# Altium schematic symbol library 3D_MIG_Controller.SCHLIB: 528 symbols (part 3 of 6)
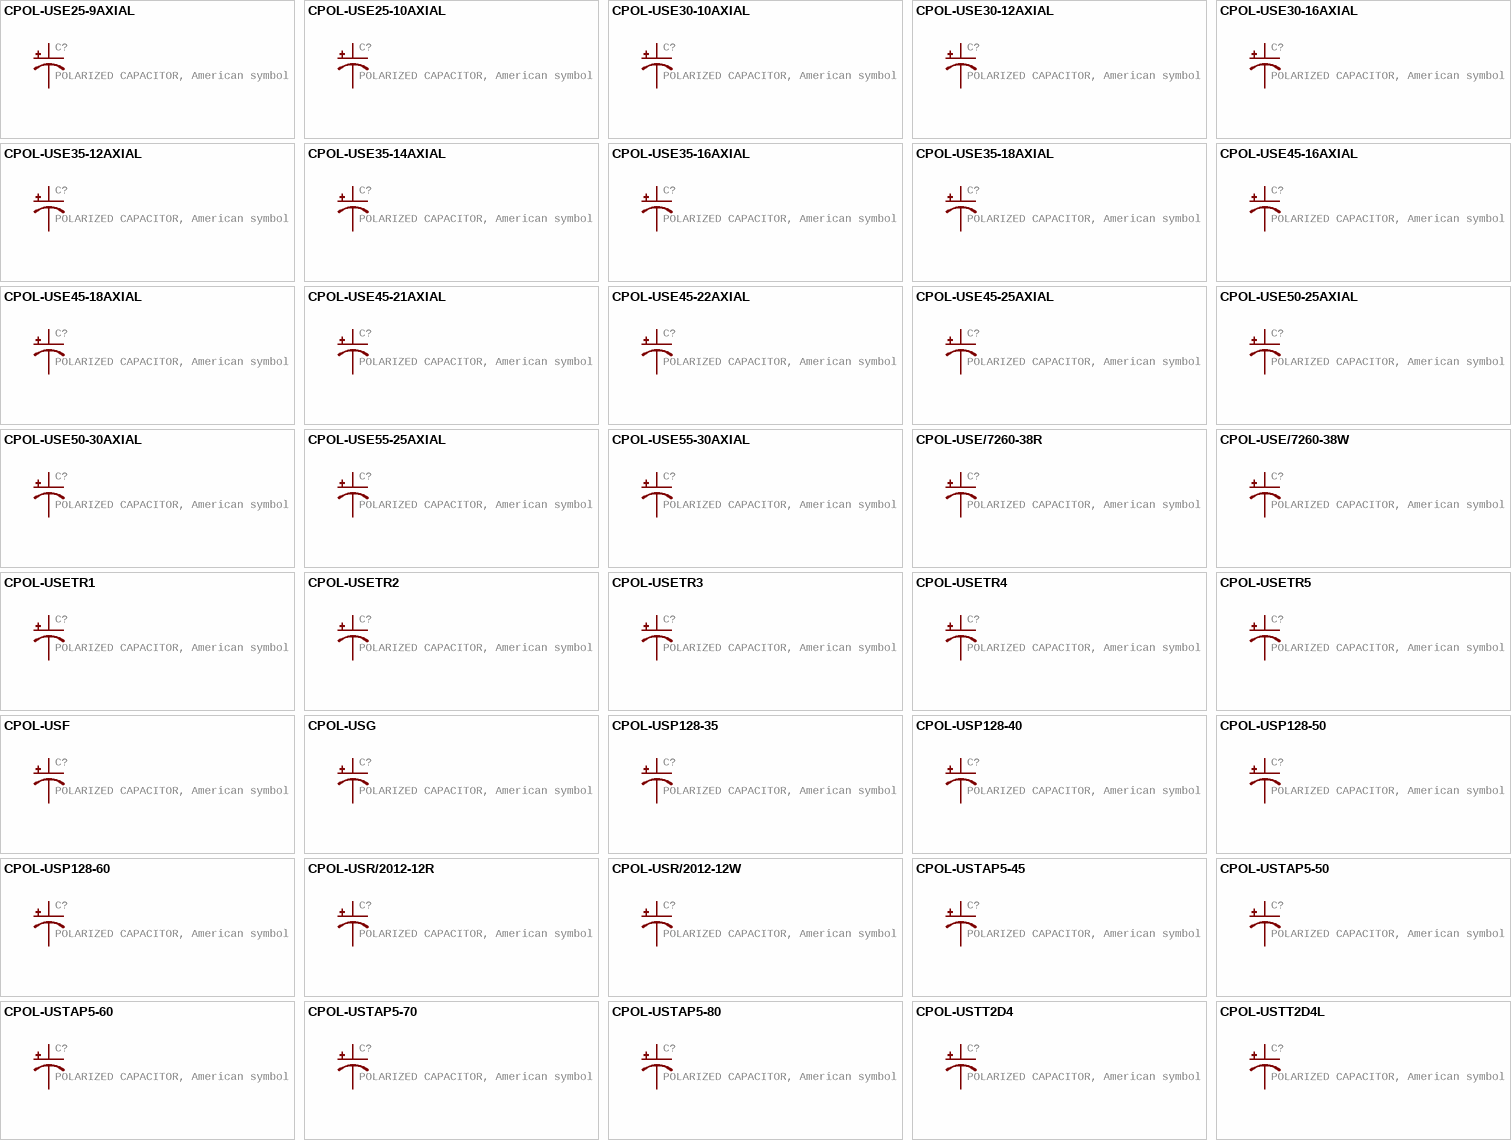
[diagram p34: symbols CPOL-USE25-9AXIAL to CPOL-USTT2D4L]

## CPOL-USE45-21AXIAL
designator C?, comment POLARIZED CAPACITOR, American symbol
GateName_1: G$1; SymbolName_1: CAP_POLARIZED; DeviceName: E45-21AXIAL; DeviceSetName: CPOL-US; LibraryName: 3D_MIG_Controller; Package: E45-21
footprint E45-21
pins: +, -

## CPOL-USE45-22AXIAL
designator C?, comment POLARIZED CAPACITOR, American symbol
GateName_1: G$1; SymbolName_1: CAP_POLARIZED; DeviceName: E45-22AXIAL; DeviceSetName: CPOL-US; LibraryName: 3D_MIG_Controller; Package: E45-22
footprint E45-22
pins: +, -

## CPOL-USE45-25AXIAL
designator C?, comment POLARIZED CAPACITOR, American symbol
GateName_1: G$1; SymbolName_1: CAP_POLARIZED; DeviceName: E45-25AXIAL; DeviceSetName: CPOL-US; LibraryName: 3D_MIG_Controller; Package: E45-25
footprint E45-25
pins: +, -

## CPOL-USE50-25AXIAL
designator C?, comment POLARIZED CAPACITOR, American symbol
GateName_1: G$1; SymbolName_1: CAP_POLARIZED; DeviceName: E50-25AXIAL; DeviceSetName: CPOL-US; LibraryName: 3D_MIG_Controller; Package: E50-25
footprint E50-25
pins: +, -

## CPOL-USE50-30AXIAL
designator C?, comment POLARIZED CAPACITOR, American symbol
GateName_1: G$1; SymbolName_1: CAP_POLARIZED; DeviceName: E50-30AXIAL; DeviceSetName: CPOL-US; LibraryName: 3D_MIG_Controller; Package: E50-30
footprint E50-30
pins: +, -

## CPOL-USE55-25AXIAL
designator C?, comment POLARIZED CAPACITOR, American symbol
GateName_1: G$1; SymbolName_1: CAP_POLARIZED; DeviceName: E55-25AXIAL; DeviceSetName: CPOL-US; LibraryName: 3D_MIG_Controller; Package: E55-25
footprint E55-25
pins: +, -

## CPOL-USE55-30AXIAL
designator C?, comment POLARIZED CAPACITOR, American symbol
GateName_1: G$1; SymbolName_1: CAP_POLARIZED; DeviceName: E55-30AXIAL; DeviceSetName: CPOL-US; LibraryName: 3D_MIG_Controller; Package: E55-30
footprint E55-30
pins: +, -

## CPOL-USE/7260-38R
designator C?, comment POLARIZED CAPACITOR, American symbol
GateName_1: G$1; SymbolName_1: CAP_POLARIZED; DeviceName: E/7260-38R; DeviceSetName: CPOL-US; LibraryName: 3D_MIG_Controller; Package: E/7260-38R
footprint E/7260-38R
pins: +, -

## CPOL-USE/7260-38W
designator C?, comment POLARIZED CAPACITOR, American symbol
GateName_1: G$1; SymbolName_1: CAP_POLARIZED; DeviceName: E/7260-38W; DeviceSetName: CPOL-US; LibraryName: 3D_MIG_Controller; Package: E/7260-38W
footprint E/7260-38W
pins: +, -

## CPOL-USETR1
designator C?, comment POLARIZED CAPACITOR, American symbol
GateName_1: G$1; SymbolName_1: CAP_POLARIZED; DeviceName: ETR1; DeviceSetName: CPOL-US; LibraryName: 3D_MIG_Controller; Package: ETR1
footprint ETR1
pins: +, -

## CPOL-USETR2
designator C?, comment POLARIZED CAPACITOR, American symbol
GateName_1: G$1; SymbolName_1: CAP_POLARIZED; DeviceName: ETR2; DeviceSetName: CPOL-US; LibraryName: 3D_MIG_Controller; Package: ETR2
footprint ETR2
pins: +, -

## CPOL-USETR3
designator C?, comment POLARIZED CAPACITOR, American symbol
GateName_1: G$1; SymbolName_1: CAP_POLARIZED; DeviceName: ETR3; DeviceSetName: CPOL-US; LibraryName: 3D_MIG_Controller; Package: ETR3
footprint ETR3
pins: +, -

## CPOL-USETR4
designator C?, comment POLARIZED CAPACITOR, American symbol
GateName_1: G$1; SymbolName_1: CAP_POLARIZED; DeviceName: ETR4; DeviceSetName: CPOL-US; LibraryName: 3D_MIG_Controller; Package: ETR4
footprint ETR4
pins: +, -

## CPOL-USETR5
designator C?, comment POLARIZED CAPACITOR, American symbol
GateName_1: G$1; SymbolName_1: CAP_POLARIZED; DeviceName: ETR5; DeviceSetName: CPOL-US; LibraryName: 3D_MIG_Controller; Package: ETR5
footprint ETR5
pins: +, -

## CPOL-USF
designator C?, comment POLARIZED CAPACITOR, American symbol
GateName_1: G$1; SymbolName_1: CAP_POLARIZED; DeviceName: F; DeviceSetName: CPOL-US; LibraryName: 3D_MIG_Controller; Package: PANASONIC_F
footprint PANASONIC_F
pins: +, -

## CPOL-USG
designator C?, comment POLARIZED CAPACITOR, American symbol
GateName_1: G$1; SymbolName_1: CAP_POLARIZED; DeviceName: G; DeviceSetName: CPOL-US; LibraryName: 3D_MIG_Controller; Package: PANASONIC_G
footprint PANASONIC_G
pins: +, -

## CPOL-USP128-35
designator C?, comment POLARIZED CAPACITOR, American symbol
GateName_1: G$1; SymbolName_1: CAP_POLARIZED; DeviceName: P128-35; DeviceSetName: CPOL-US; LibraryName: 3D_MIG_Controller; Package: P128-35
footprint P128-35
pins: +, -

## CPOL-USP128-40
designator C?, comment POLARIZED CAPACITOR, American symbol
GateName_1: G$1; SymbolName_1: CAP_POLARIZED; DeviceName: P128-40; DeviceSetName: CPOL-US; LibraryName: 3D_MIG_Controller; Package: P128-40
footprint P128-40
pins: +, -

## CPOL-USP128-50
designator C?, comment POLARIZED CAPACITOR, American symbol
GateName_1: G$1; SymbolName_1: CAP_POLARIZED; DeviceName: P128-50; DeviceSetName: CPOL-US; LibraryName: 3D_MIG_Controller; Package: P128-50
footprint P128-50
pins: +, -

## CPOL-USP128-60
designator C?, comment POLARIZED CAPACITOR, American symbol
GateName_1: G$1; SymbolName_1: CAP_POLARIZED; DeviceName: P128-60; DeviceSetName: CPOL-US; LibraryName: 3D_MIG_Controller; Package: P128-60
footprint P128-60
pins: +, -

## CPOL-USR/2012-12R
designator C?, comment POLARIZED CAPACITOR, American symbol
GateName_1: G$1; SymbolName_1: CAP_POLARIZED; DeviceName: R/2012-12R; DeviceSetName: CPOL-US; LibraryName: 3D_MIG_Controller; Package: R/2012-12R
footprint R/2012-12R
pins: +, -

## CPOL-USR/2012-12W
designator C?, comment POLARIZED CAPACITOR, American symbol
GateName_1: G$1; SymbolName_1: CAP_POLARIZED; DeviceName: R/2012-12W; DeviceSetName: CPOL-US; LibraryName: 3D_MIG_Controller; Package: R/2012-12W
footprint R/2012-12W
pins: +, -

## CPOL-USTAP5-45
designator C?, comment POLARIZED CAPACITOR, American symbol
GateName_1: G$1; SymbolName_1: CAP_POLARIZED; DeviceName: TAP5-45; DeviceSetName: CPOL-US; LibraryName: 3D_MIG_Controller; Package: TAP5-45
footprint TAP5-45
pins: +, -

## CPOL-USTAP5-50
designator C?, comment POLARIZED CAPACITOR, American symbol
GateName_1: G$1; SymbolName_1: CAP_POLARIZED; DeviceName: TAP5-50; DeviceSetName: CPOL-US; LibraryName: 3D_MIG_Controller; Package: TAP5-50
footprint TAP5-50
pins: +, -

## CPOL-USTAP5-60
designator C?, comment POLARIZED CAPACITOR, American symbol
GateName_1: G$1; SymbolName_1: CAP_POLARIZED; DeviceName: TAP5-60; DeviceSetName: CPOL-US; LibraryName: 3D_MIG_Controller; Package: TAP5-60
footprint TAP5-60
pins: +, -

## CPOL-USTAP5-70
designator C?, comment POLARIZED CAPACITOR, American symbol
GateName_1: G$1; SymbolName_1: CAP_POLARIZED; DeviceName: TAP5-70; DeviceSetName: CPOL-US; LibraryName: 3D_MIG_Controller; Package: TAP5-70
footprint TAP5-70
pins: +, -

## CPOL-USTAP5-80
designator C?, comment POLARIZED CAPACITOR, American symbol
GateName_1: G$1; SymbolName_1: CAP_POLARIZED; DeviceName: TAP5-80; DeviceSetName: CPOL-US; LibraryName: 3D_MIG_Controller; Package: TAP5-80
footprint TAP5-80
pins: +, -

## CPOL-USTT2D4
designator C?, comment POLARIZED CAPACITOR, American symbol
GateName_1: G$1; SymbolName_1: CAP_POLARIZED; DeviceName: TT2D4; DeviceSetName: CPOL-US; LibraryName: 3D_MIG_Controller; Package: TT2D4
footprint TT2D4
pins: +, -

## CPOL-USTT2D4L
designator C?, comment POLARIZED CAPACITOR, American symbol
GateName_1: G$1; SymbolName_1: CAP_POLARIZED; DeviceName: TT2D4L; DeviceSetName: CPOL-US; LibraryName: 3D_MIG_Controller; Package: TT2D4L
footprint TT2D4L
pins: +, -

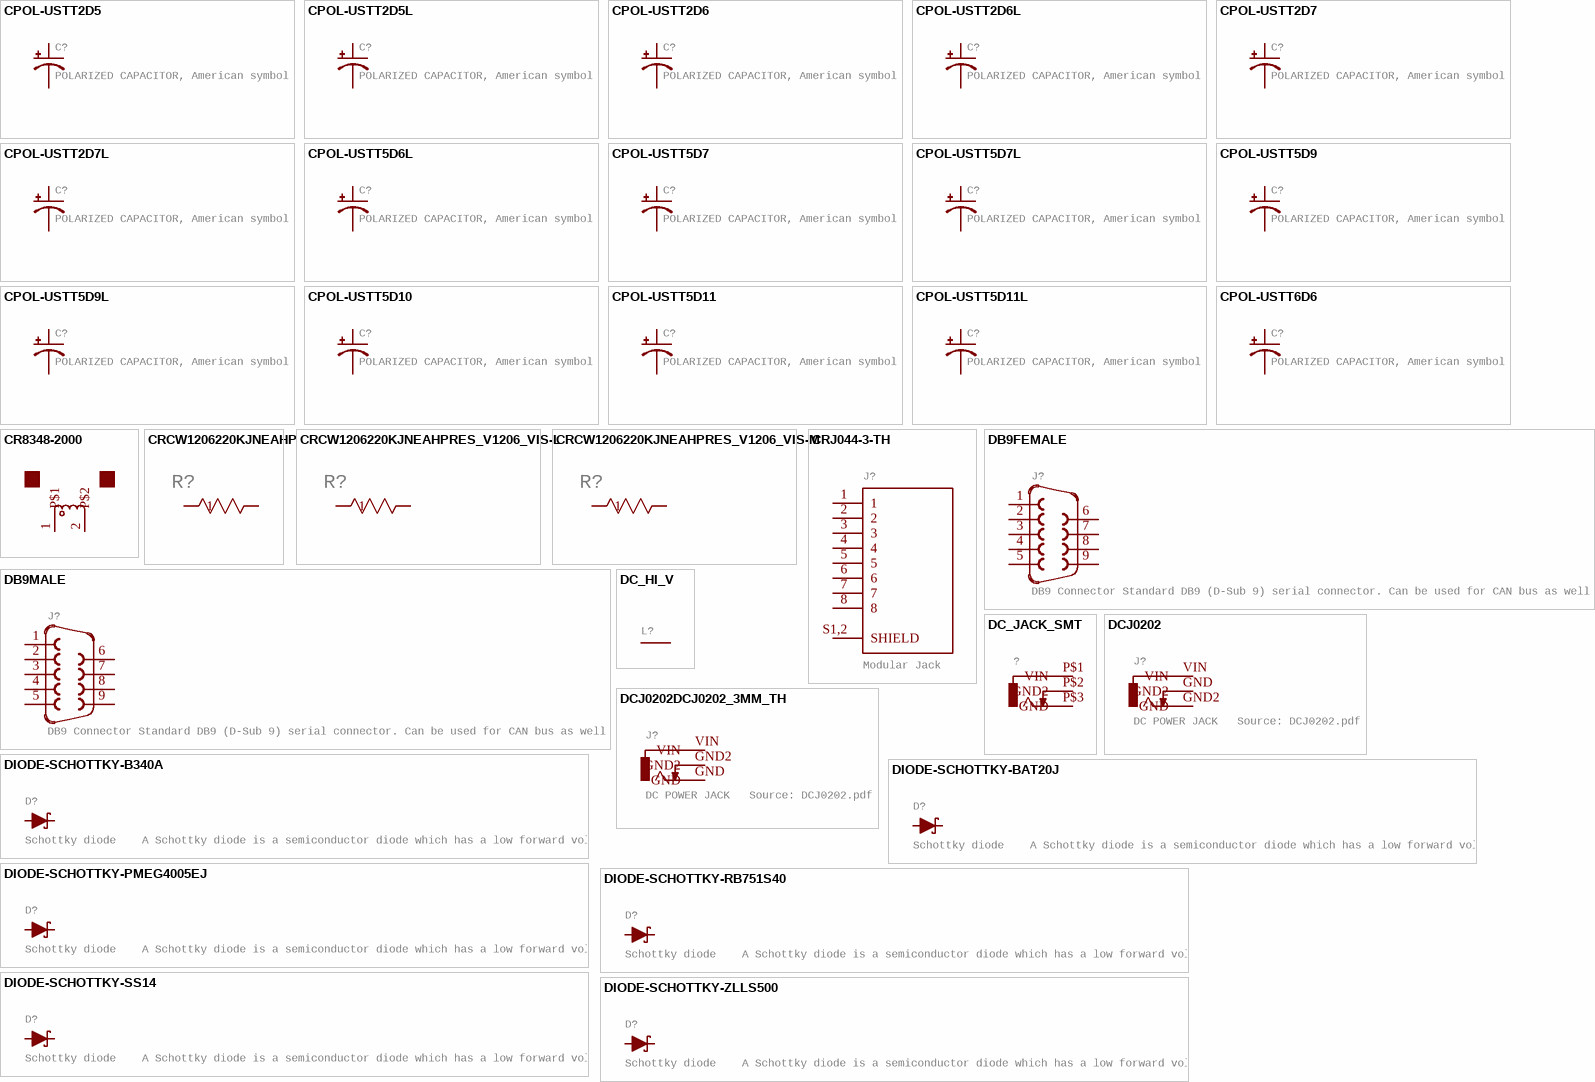
[diagram p11: symbols CPOL-USTT2D5 to DIODE-SCHOTTKY-ZLLS500]

## CPOL-USTT2D5
designator C?, comment POLARIZED CAPACITOR, American symbol
GateName_1: G$1; SymbolName_1: CAP_POLARIZED; DeviceName: TT2D5; DeviceSetName: CPOL-US; LibraryName: 3D_MIG_Controller; Package: TT2D5
footprint TT2D5
pins: +, -

## CPOL-USTT2D5L
designator C?, comment POLARIZED CAPACITOR, American symbol
GateName_1: G$1; SymbolName_1: CAP_POLARIZED; DeviceName: TT2D5L; DeviceSetName: CPOL-US; LibraryName: 3D_MIG_Controller; Package: TT2D5L
footprint TT2D5L
pins: +, -

## CPOL-USTT2D6
designator C?, comment POLARIZED CAPACITOR, American symbol
GateName_1: G$1; SymbolName_1: CAP_POLARIZED; DeviceName: TT2D6; DeviceSetName: CPOL-US; LibraryName: 3D_MIG_Controller; Package: TT2D6
footprint TT2D6
pins: +, -

## CPOL-USTT2D6L
designator C?, comment POLARIZED CAPACITOR, American symbol
GateName_1: G$1; SymbolName_1: CAP_POLARIZED; DeviceName: TT2D6L; DeviceSetName: CPOL-US; LibraryName: 3D_MIG_Controller; Package: TT2D6L
footprint TT2D6L
pins: +, -

## CPOL-USTT2D7
designator C?, comment POLARIZED CAPACITOR, American symbol
GateName_1: G$1; SymbolName_1: CAP_POLARIZED; DeviceName: TT2D7; DeviceSetName: CPOL-US; LibraryName: 3D_MIG_Controller; Package: TT2D7
footprint TT2D7
pins: +, -

## CPOL-USTT2D7L
designator C?, comment POLARIZED CAPACITOR, American symbol
GateName_1: G$1; SymbolName_1: CAP_POLARIZED; DeviceName: TT2D7L; DeviceSetName: CPOL-US; LibraryName: 3D_MIG_Controller; Package: TT2D7L
footprint TT2D7L
pins: +, -

## CPOL-USTT5D6L
designator C?, comment POLARIZED CAPACITOR, American symbol
GateName_1: G$1; SymbolName_1: CAP_POLARIZED; DeviceName: TT5D6L; DeviceSetName: CPOL-US; LibraryName: 3D_MIG_Controller; Package: TT5D6L
footprint TT5D6L
pins: +, -

## CPOL-USTT5D7
designator C?, comment POLARIZED CAPACITOR, American symbol
GateName_1: G$1; SymbolName_1: CAP_POLARIZED; DeviceName: TT5D7; DeviceSetName: CPOL-US; LibraryName: 3D_MIG_Controller; Package: TT5D7
footprint TT5D7
pins: +, -

## CPOL-USTT5D7L
designator C?, comment POLARIZED CAPACITOR, American symbol
GateName_1: G$1; SymbolName_1: CAP_POLARIZED; DeviceName: TT5D7L; DeviceSetName: CPOL-US; LibraryName: 3D_MIG_Controller; Package: TT5D7L
footprint TT5D7L
pins: +, -

## CPOL-USTT5D9
designator C?, comment POLARIZED CAPACITOR, American symbol
GateName_1: G$1; SymbolName_1: CAP_POLARIZED; DeviceName: TT5D9; DeviceSetName: CPOL-US; LibraryName: 3D_MIG_Controller; Package: TT5D9
footprint TT5D9
pins: +, -

## CPOL-USTT5D9L
designator C?, comment POLARIZED CAPACITOR, American symbol
GateName_1: G$1; SymbolName_1: CAP_POLARIZED; DeviceName: TT5D9L; DeviceSetName: CPOL-US; LibraryName: 3D_MIG_Controller; Package: TT5D9L
footprint TT5D9L
pins: +, -

## CPOL-USTT5D10
designator C?, comment POLARIZED CAPACITOR, American symbol
GateName_1: G$1; SymbolName_1: CAP_POLARIZED; DeviceName: TT5D10; DeviceSetName: CPOL-US; LibraryName: 3D_MIG_Controller; Package: TT5D10
footprint TT5D10
pins: +, -

## CPOL-USTT5D11
designator C?, comment POLARIZED CAPACITOR, American symbol
GateName_1: G$1; SymbolName_1: CAP_POLARIZED; DeviceName: TT5D11; DeviceSetName: CPOL-US; LibraryName: 3D_MIG_Controller; Package: TT5D11
footprint TT5D11
pins: +, -

## CPOL-USTT5D11L
designator C?, comment POLARIZED CAPACITOR, American symbol
GateName_1: G$1; SymbolName_1: CAP_POLARIZED; DeviceName: TT5D11L; DeviceSetName: CPOL-US; LibraryName: 3D_MIG_Controller; Package: TT5D11L
footprint TT5D11L
pins: +, -

## CPOL-USTT6D6
designator C?, comment POLARIZED CAPACITOR, American symbol
GateName_1: G$1; SymbolName_1: CAP_POLARIZED; DeviceName: TT6D6; DeviceSetName: CPOL-US; LibraryName: 3D_MIG_Controller; Package: TT5D6
footprint TT5D6
pins: +, -

## CR8348-2000
designator TR?
GateName_1: G$1; SymbolName_1: CURRENT_TRANSFORMER; DeviceSetName: CR8348-2000; LibraryName: 3D_MIG_Controller; Package: AC-1020-3PIN
footprint AC-1020-3PIN
pins: 1 P$1 (io), 2 P$2 (io)

## CRCW1206220KJNEAHP
designator R?
GateName_1: A; SymbolName_1: RES; DeviceSetName: CRCW1206220KJNEAHP; BUILT_BY: EMA_UL_Team; SOURCELIBRARY: Vishay_2015_05_22; VENDOR: Vishay; LibraryName: 3D_MIG_Controller; Package: RES_V1206_VIS; MANUFACTURER_PART_NUMBER: CRCW1206220KJNEAHP
footprint RES_V1206_VIS
pins: 1, 2

## CRCW1206220KJNEAHPRES_V1206_VIS-L
designator R?
GateName_1: A; SymbolName_1: RES; DeviceName: RES_V1206_VIS-L; DeviceSetName: CRCW1206220KJNEAHP; BUILT_BY: EMA_UL_Team; SOURCELIBRARY: Vishay_2015_05_22; VENDOR: Vishay; LibraryName: 3D_MIG_Controller; Package: RES_V1206_VIS-L; MANUFACTURER_PART_NUMBER: CRCW1206220KJNEAHP
footprint RES_V1206_VIS-L
pins: 1, 2

## CRCW1206220KJNEAHPRES_V1206_VIS-M
designator R?
GateName_1: A; SymbolName_1: RES; DeviceName: RES_V1206_VIS-M; DeviceSetName: CRCW1206220KJNEAHP; BUILT_BY: EMA_UL_Team; SOURCELIBRARY: Vishay_2015_05_22; VENDOR: Vishay; LibraryName: 3D_MIG_Controller; Package: RES_V1206_VIS-M; MANUFACTURER_PART_NUMBER: CRCW1206220KJNEAHP
footprint RES_V1206_VIS-M
pins: 1, 2

## CRJ044-3-TH
designator J?, comment Modular Jack
GateName_1: G$1; SymbolName_1: CRJ044-3-TH; LibraryName: 3D_MIG_Controller; DeviceSetName: CRJ044-3-TH; Package: CUI_CRJ044-3-TH; MAXIMUM_PACKAGE_HEIGHT: 13.46 mm; PARTREV: 1.0; STANDARD: Manufacturer Recommendations
footprint CUI_CRJ044-3-TH
pins: 1, 2, 3, 4, 5, 6, 7, 8, S1,2 SHIELD

## DB9FEMALE
designator J?, comment DB9 Connector Standard DB9 (D-Sub 9) serial connector. Can be used for CAN bus as well as RS485 and RS232. Footprint production proven.    Here is the female version connector we sell at SparkFun:  9 Pin Female Serial Connector - PCB Mount (PRT-00429)       This connector has been used on the following SparkFun products: SparkFun RS232 Shifter - SMD (PRT-00449)   SparkFun RS232 Shifter SMD (No DB9) (PRT-08780)
GateName_1: G$1; SymbolName_1: F09G; PROD_ID: CONN-08194; DeviceName: FEMALE; LibraryName: 3D_MIG_Controller; DeviceSetName: DB9; Package: DB9
footprint DB9
pins: 1, 2, 3, 4, 5, 6, 7, 8, 9

## DB9MALE
designator J?, comment DB9 Connector Standard DB9 (D-Sub 9) serial connector. Can be used for CAN bus as well as RS485 and RS232. Footprint production proven.    Here is the female version connector we sell at SparkFun:  9 Pin Female Serial Connector - PCB Mount (PRT-00429)       This connector has been used on the following SparkFun products: SparkFun RS232 Shifter - SMD (PRT-00449)   SparkFun RS232 Shifter SMD (No DB9) (PRT-08780)
GateName_1: G$1; SymbolName_1: F09G; DeviceName: MALE; PROD_ID: CONN-09904; LibraryName: 3D_MIG_Controller; DeviceSetName: DB9; Package: DB9_MALE
footprint DB9_MALE
pins: 1, 2, 3, 4, 5, 6, 7, 8, 9

## DC_HI_V
designator L?
GateName_1: G$1; SymbolName_1: AC_240V_L1_15A; DeviceSetName: DC_HI_V; LibraryName: 3D_MIG_Controller; Package: AC_240V_L1_15A
footprint AC_240V_L1_15A
pins: P$1

## DC_JACK_SMT
designator ?
GateName_1: G$1; SymbolName_1: DC-JACK-SWITCH; DeviceSetName: DC_JACK_SMT; LibraryName: 3D_MIG_Controller; Package: DC_JACK_SMT
footprint DC_JACK_SMT
pins: P$1 VIN (power), P$2 GND2 (power), P$3 GND (power)

## DCJ0202
designator J?, comment DC POWER JACK   Source: DCJ0202.pdf
GateName_1: G$1; SymbolName_1: DC-JACK-SWITCH; LibraryName: 3D_MIG_Controller; DeviceSetName: DCJ0202; Package: DCJ0202; OC_FARNELL: unknown; OC_NEWARK: unknown
footprint DCJ0202
pins: GND GND2 (power), GND2 GND (power), VIN (power)

## DCJ0202DCJ0202_3MM_TH
designator J?, comment DC POWER JACK   Source: DCJ0202.pdf
GateName_1: G$1; SymbolName_1: DC-JACK-SWITCH; DeviceName: DCJ0202_3MM_TH; LibraryName: 3D_MIG_Controller; DeviceSetName: DCJ0202; Package: DCJ0202_3MM_TH
footprint DCJ0202_3MM_TH
pins: GND (power), GND2 (power), VIN (power)

## DIODE-SCHOTTKY-B340A
designator D?, comment Schottky diode    A Schottky diode is a semiconductor diode which has a low forward voltage drop and a very fast switching action.
GateName_1: G$1; SymbolName_1: DIODE-SCHOTTKY; DeviceName: -B340A; PROD_ID: DIO-09886; LibraryName: 3D_MIG_Controller; DeviceSetName: DIODE-SCHOTTKY; Package: SMA-DIODE
footprint SMA-DIODE
pins: A, C

## DIODE-SCHOTTKY-BAT20J
designator D?, comment Schottky diode    A Schottky diode is a semiconductor diode which has a low forward voltage drop and a very fast switching action.
GateName_1: G$1; SymbolName_1: DIODE-SCHOTTKY; DeviceName: -BAT20J; PROD_ID: DIO-11623; LibraryName: 3D_MIG_Controller; DeviceSetName: DIODE-SCHOTTKY; Package: SOD-323
footprint SOD-323
pins: A, C

## DIODE-SCHOTTKY-PMEG4005EJ
designator D?, comment Schottky diode    A Schottky diode is a semiconductor diode which has a low forward voltage drop and a very fast switching action.
GateName_1: G$1; SymbolName_1: DIODE-SCHOTTKY; DeviceName: -PMEG4005EJ; PROD_ID: DIO-10955; LibraryName: 3D_MIG_Controller; DeviceSetName: DIODE-SCHOTTKY; Package: SOD-323
footprint SOD-323
pins: A, C

## DIODE-SCHOTTKY-RB751S40
designator D?, comment Schottky diode    A Schottky diode is a semiconductor diode which has a low forward voltage drop and a very fast switching action.
GateName_1: G$1; SymbolName_1: DIODE-SCHOTTKY; DeviceName: -RB751S40; PROD_ID: DIO-11018; LibraryName: 3D_MIG_Controller; DeviceSetName: DIODE-SCHOTTKY; Package: SOD-523
footprint SOD-523
pins: A, C

## DIODE-SCHOTTKY-SS14
designator D?, comment Schottky diode    A Schottky diode is a semiconductor diode which has a low forward voltage drop and a very fast switching action.
GateName_1: G$1; SymbolName_1: DIODE-SCHOTTKY; DeviceName: -SS14; PROD_ID: DIO-08053; LibraryName: 3D_MIG_Controller; DeviceSetName: DIODE-SCHOTTKY; Package: SMA-DIODE
footprint SMA-DIODE
pins: A, C

## DIODE-SCHOTTKY-ZLLS500
designator D?, comment Schottky diode    A Schottky diode is a semiconductor diode which has a low forward voltage drop and a very fast switching action.
GateName_1: G$1; SymbolName_1: DIODE-SCHOTTKY; DeviceName: -ZLLS500; PROD_ID: DIO-08411; LibraryName: 3D_MIG_Controller; DeviceSetName: DIODE-SCHOTTKY; Package: SOT23-3
footprint SOT23-3
pins: 1 A, 3 C

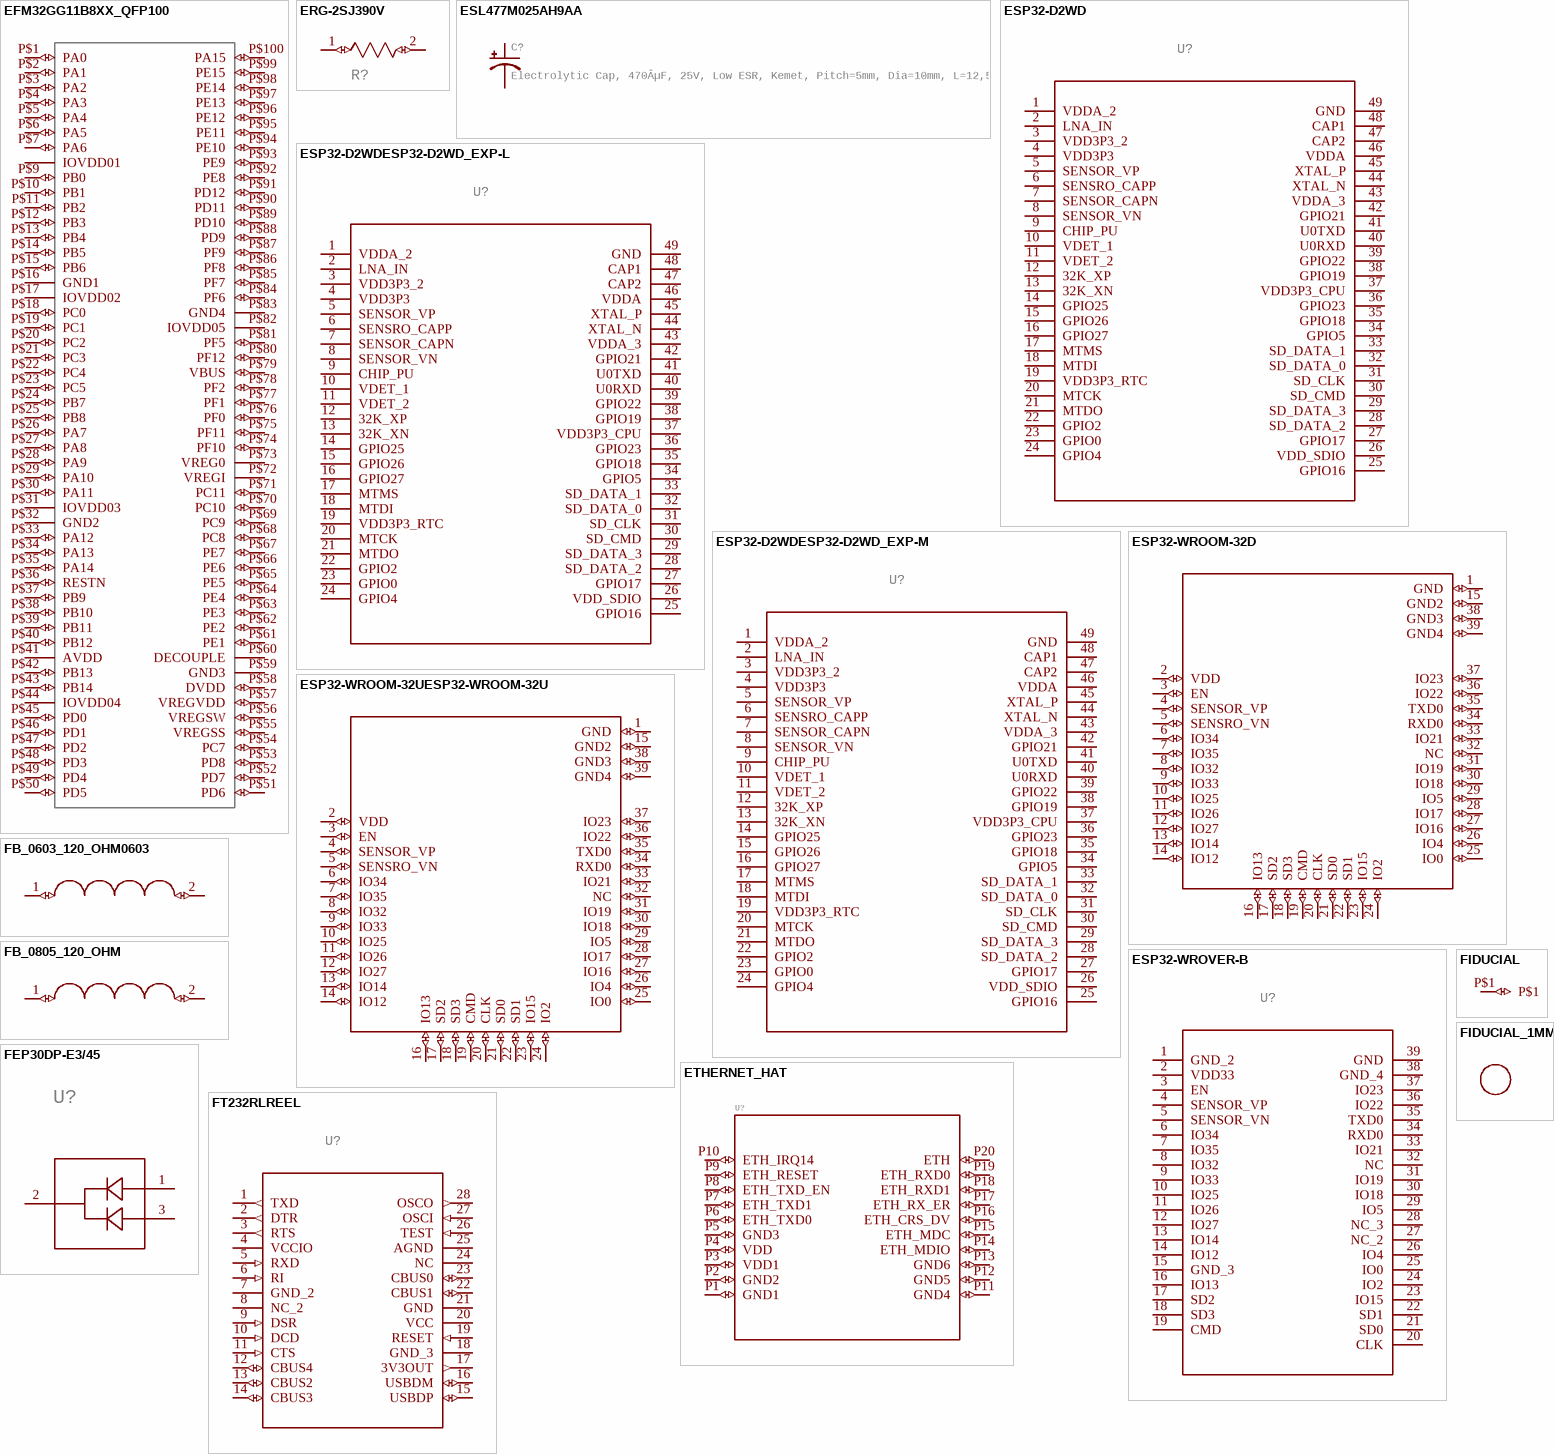
[diagram p12: symbols EFM32GG11B8XX_QFP100 to FT232RLREEL]

## EFM32GG11B8XX_QFP100
designator U?
GateName_1: G$1; SymbolName_1: EFM32_LQFP_100; DeviceSetName: EFM32GG11B8XX_QFP100; LibraryName: 3D_MIG_Controller; Package: LQFP_100_PINS_BREAKOUT
footprint LQFP_100_PINS_BREAKOUT
pins: P$1 PA0 (io), P$2 PA1 (io), P$3 PA2 (io), P$4 PA3 (io), P$5 PA4 (io), P$6 PA5 (io), P$7 PA6 (io), P$8 IOVDD01 (power), P$9 PB0 (io), P$10 PB1 (io), P$11 PB2 (io), P$12 PB3 (io), P$13 PB4 (io), P$14 PB5 (io), P$15 PB6 (io), P$16 GND1 (power), P$17 IOVDD02 (power), P$18 PC0 (io), P$19 PC1 (io), P$20 PC2 (io), P$21 PC3 (io), P$22 PC4 (io), P$23 PC5 (io), P$24 PB7 (io), P$25 PB8 (io), P$26 PA7 (io), P$27 PA8 (io), P$28 PA9 (io), P$29 PA10 (io), P$30 PA11 (io), P$31 IOVDD03 (power), P$32 GND2 (power), P$33 PA12 (io), P$34 PA13 (io), P$35 PA14 (io), P$36 RESTN (io), P$37 PB9 (io), P$38 PB10 (io), P$39 PB11 (io), P$40 PB12 (io), P$41 AVDD (power), P$42 PB13 (io), P$43 PB14 (io), P$44 IOVDD04 (power), P$45 PD0 (io), P$46 PD1 (io), P$47 PD2 (io), P$48 PD3 (io), P$49 PD4 (io), P$50 PD5 (io), P$51 PD6 (io), P$52 PD7 (io), P$53 PD8 (io), P$54 PC7 (io), P$55 VREGSS (io), P$56 VREGSW (io), P$57 VREGVDD (io), P$58 DVDD (io), P$59 GND3 (power), P$60 DECOUPLE (power), P$61 PE1 (io), P$62 PE2 (io), P$63 PE3 (io), P$64 PE4 (io), P$65 PE5 (io), P$66 PE6 (io), P$67 PE7 (io), P$68 PC8 (io), P$69 PC9 (io), P$70 PC10 (io), P$71 PC11 (io), P$72 VREGI (power), P$73 VREG0 (power), P$74 PF10 (io), P$75 PF11 (io), P$76 PF0 (io), P$77 PF1 (io), P$78 PF2 (io), P$79 VBUS (io), P$80 PF12 (io), P$81 PF5 (io), P$82 IOVDD05 (power), P$83 GND4 (power), P$84 PF6 (io), P$85 PF7 (io), P$86 PF8 (io), P$87 PF9 (io), P$88 PD9 (io), P$89 PD10 (io), P$90 PD11 (io), P$91 PD12 (io), P$92 PE8 (io), P$93 PE9 (io), P$94 PE10 (io), P$95 PE11 (io), P$96 PE12 (io), P$97 PE13 (io), P$98 PE14 (io), P$99 PE15 (io), P$100 PA15 (io)

## ERG-2SJ390V
designator R?, comment RES 39 OHM 2W 5% AXIAL, Metal Oxide, Panasonic  (value not drawn)
GateName_1: G$1; SymbolName_1: ERG-2SJ390V_0_0; DeviceSetName: ERG-2SJ390V; LibraryName: 3D_MIG_Controller; Package: ERG-2SJ390V_0
footprint ERG-2SJ390V_0
pins: 1 (io), 2 (io)

## ESL477M025AH9AA
designator C?, comment Electrolytic Cap, 470ÂµF, 25V, Low ESR, Kemet, Pitch=5mm, Dia=10mm, L=12,5mm
GateName_1: G$1; SymbolName_1: CAP_POLARIZED; DeviceSetName: ESL477M025AH9AA; LibraryName: 3D_MIG_Controller; Package: CAPACITOR-ELKO-RM5-10X16
footprint CAPACITOR-ELKO-RM5-10X16
pins: 1 +, 2 -

## ESP32-D2WD
designator U?
GateName_1: A; SymbolName_1: ESP32-D2WD; BUILT_BY: EMA_Colton; SOURCELIBRARY: Espressif_Systems_2020-02-05; VENDOR: Espressif Systems; LibraryName: 3D_MIG_Controller; DeviceSetName: ESP32-D2WD; Package: ESP32-D2WD_EXP; COPYRIGHT: Copyright (C) 2018 Accelerated Designs. All rights reserved; DATASHEET: https://datasheet.octopart.com/ESP32-D2WD-Espressif-Systems-datasheet-103126828.pdf; MANUFACTURER_PART_NUMBER: ESP32-D2WD
footprint ESP32-D2WD_EXP
pins: 1 VDDA_2, 2 LNA_IN, 3 VDD3P3_2, 4 VDD3P3, 5 SENSOR_VP, 6 SENSRO_CAPP, 7 SENSOR_CAPN, 8 SENSOR_VN, 9 CHIP_PU, 10 VDET_1, 11 VDET_2, 12 32K_XP, 13 32K_XN, 14 GPIO25, 15 GPIO26, 16 GPIO27, 17 MTMS, 18 MTDI, 19 VDD3P3_RTC, 20 MTCK, 21 MTDO, 22 GPIO2, 23 GPIO0, 24 GPIO4, 25 GPIO16, 26 VDD_SDIO, 27 GPIO17, 28 SD_DATA_2, 29 SD_DATA_3, 30 SD_CMD, 31 SD_CLK, 32 SD_DATA_0, 33 SD_DATA_1, 34 GPIO5, 35 GPIO18, 36 GPIO23, 37 VDD3P3_CPU, 38 GPIO19, 39 GPIO22, 40 U0RXD, 41 U0TXD, 42 GPIO21, 43 VDDA_3, 44 XTAL_N, 45 XTAL_P, 46 VDDA, 47 CAP2, 48 CAP1, 49 GND

## ESP32-D2WDESP32-D2WD_EXP-L
designator U?
GateName_1: A; SymbolName_1: ESP32-D2WD; DeviceName: ESP32-D2WD_EXP-L; BUILT_BY: EMA_Colton; SOURCELIBRARY: Espressif_Systems_2020-02-05; VENDOR: Espressif Systems; LibraryName: 3D_MIG_Controller; DeviceSetName: ESP32-D2WD; Package: ESP32-D2WD_EXP-L; COPYRIGHT: Copyright (C) 2018 Accelerated Designs. All rights reserved; DATASHEET: https://datasheet.octopart.com/ESP32-D2WD-Espressif-Systems-datasheet-103126828.pdf; MANUFACTURER_PART_NUMBER: ESP32-D2WD
footprint ESP32-D2WD_EXP-L
pins: 1 VDDA_2, 2 LNA_IN, 3 VDD3P3_2, 4 VDD3P3, 5 SENSOR_VP, 6 SENSRO_CAPP, 7 SENSOR_CAPN, 8 SENSOR_VN, 9 CHIP_PU, 10 VDET_1, 11 VDET_2, 12 32K_XP, 13 32K_XN, 14 GPIO25, 15 GPIO26, 16 GPIO27, 17 MTMS, 18 MTDI, 19 VDD3P3_RTC, 20 MTCK, 21 MTDO, 22 GPIO2, 23 GPIO0, 24 GPIO4, 25 GPIO16, 26 VDD_SDIO, 27 GPIO17, 28 SD_DATA_2, 29 SD_DATA_3, 30 SD_CMD, 31 SD_CLK, 32 SD_DATA_0, 33 SD_DATA_1, 34 GPIO5, 35 GPIO18, 36 GPIO23, 37 VDD3P3_CPU, 38 GPIO19, 39 GPIO22, 40 U0RXD, 41 U0TXD, 42 GPIO21, 43 VDDA_3, 44 XTAL_N, 45 XTAL_P, 46 VDDA, 47 CAP2, 48 CAP1, 49 GND

## ESP32-D2WDESP32-D2WD_EXP-M
designator U?
GateName_1: A; SymbolName_1: ESP32-D2WD; DeviceName: ESP32-D2WD_EXP-M; BUILT_BY: EMA_Colton; SOURCELIBRARY: Espressif_Systems_2020-02-05; VENDOR: Espressif Systems; LibraryName: 3D_MIG_Controller; DeviceSetName: ESP32-D2WD; Package: ESP32-D2WD_EXP-M; COPYRIGHT: Copyright (C) 2018 Accelerated Designs. All rights reserved; DATASHEET: https://datasheet.octopart.com/ESP32-D2WD-Espressif-Systems-datasheet-103126828.pdf; MANUFACTURER_PART_NUMBER: ESP32-D2WD
footprint ESP32-D2WD_EXP-M
pins: 1 VDDA_2, 2 LNA_IN, 3 VDD3P3_2, 4 VDD3P3, 5 SENSOR_VP, 6 SENSRO_CAPP, 7 SENSOR_CAPN, 8 SENSOR_VN, 9 CHIP_PU, 10 VDET_1, 11 VDET_2, 12 32K_XP, 13 32K_XN, 14 GPIO25, 15 GPIO26, 16 GPIO27, 17 MTMS, 18 MTDI, 19 VDD3P3_RTC, 20 MTCK, 21 MTDO, 22 GPIO2, 23 GPIO0, 24 GPIO4, 25 GPIO16, 26 VDD_SDIO, 27 GPIO17, 28 SD_DATA_2, 29 SD_DATA_3, 30 SD_CMD, 31 SD_CLK, 32 SD_DATA_0, 33 SD_DATA_1, 34 GPIO5, 35 GPIO18, 36 GPIO23, 37 VDD3P3_CPU, 38 GPIO19, 39 GPIO22, 40 U0RXD, 41 U0TXD, 42 GPIO21, 43 VDDA_3, 44 XTAL_N, 45 XTAL_P, 46 VDDA, 47 CAP2, 48 CAP1, 49 GND

## ESP32-WROOM-32D
designator U?
PARTNO: ESP32-WROOM-32D (4MB); GateName_1: A; SymbolName_1: ESP32-WROOM; DeviceSetName: ESP32-WROOM-32D; LibraryName: 3D_MIG_Controller; Package: ESP32-WROOM-32D
footprint ESP32-WROOM-32D
pins: 1 GND (io), 2 VDD (io), 3 EN (io), 4 SENSOR_VP (io), 5 SENSRO_VN (io), 6 IO34 (io), 7 IO35 (io), 8 IO32 (io), 9 IO33 (io), 10 IO25 (io), 11 IO26 (io), 12 IO27 (io), 13 IO14 (io), 14 IO12 (io), 15 GND2 (io), 16 IO13 (io), 17 SD2 (io), 18 SD3 (io), 19 CMD (io), 20 CLK (io), 21 SD0 (io), 22 SD1 (io), 23 IO15 (io), 24 IO2 (io), 25 IO0 (io), 26 IO4 (io), 27 IO16 (io), 28 IO17 (io), 29 IO5 (io), 30 IO18 (io), 31 IO19 (io), 32 NC (io), 33 IO21 (io), 34 RXD0 (io), 35 TXD0 (io), 36 IO22 (io), 37 IO23 (io), 38 GND3 (io), 39 GND4 (io)

## ESP32-WROOM-32UESP32-WROOM-32U
designator U?
PARTNO: ESP32-WROOM-32U (4MB); GateName_1: A; SymbolName_1: ESP32-WROOM; DeviceName: ESP32-WROOM-32U; LibraryName: 3D_MIG_Controller; DeviceSetName: ESP32-WROOM-32U; Package: ESP32-WROOM-32U
footprint ESP32-WROOM-32U
pins: 1 GND (io), 2 VDD (io), 3 EN (io), 4 SENSOR_VP (io), 5 SENSRO_VN (io), 6 IO34 (io), 7 IO35 (io), 8 IO32 (io), 9 IO33 (io), 10 IO25 (io), 11 IO26 (io), 12 IO27 (io), 13 IO14 (io), 14 IO12 (io), 15 GND2 (io), 16 IO13 (io), 17 SD2 (io), 18 SD3 (io), 19 CMD (io), 20 CLK (io), 21 SD0 (io), 22 SD1 (io), 23 IO15 (io), 24 IO2 (io), 25 IO0 (io), 26 IO4 (io), 27 IO16 (io), 28 IO17 (io), 29 IO5 (io), 30 IO18 (io), 31 IO19 (io), 32 NC (io), 33 IO21 (io), 34 RXD0 (io), 35 TXD0 (io), 36 IO22 (io), 37 IO23 (io), 38 GND3 (io), 39 GND4 (io)

## ESP32-WROVER-B
designator U?
GateName_1: A; SymbolName_1: ESP32-WROVER-B; BUILT_BY: EMA_Colton; SOURCELIBRARY: Espressif_Systems_2020-02-05; VENDOR: Espressif Systems; LibraryName: 3D_MIG_Controller; DeviceSetName: ESP32-WROVER-B; Package: ESP32-WROVER-B_EXP; COPYRIGHT: Copyright (C) 2018 Accelerated Designs. All rights reserved; DATASHEET: https://datasheet.octopart.com/ESP32-WROVER-B-%28M213DH6464PC3Q0%29-Espressif-Systems-datasheet-137461429.pdf; PARTNO: ESP32-WROVER-B
footprint ESP32-WROVER-B_EXP
pins: 1 GND_2, 2 VDD33, 3 EN, 4 SENSOR_VP, 5 SENSOR_VN, 6 IO34, 7 IO35, 8 IO32, 9 IO33, 10 IO25, 11 IO26, 12 IO27, 13 IO14, 14 IO12, 15 GND_3, 16 IO13, 17 SD2, 18 SD3, 19 CMD, 20 CLK, 21 SD0, 22 SD1, 23 IO15, 24 IO2, 25 IO0, 26 IO4, 27 NC_2, 28 NC_3, 29 IO5, 30 IO18, 31 IO19, 32 NC, 33 IO21, 34 RXD0, 35 TXD0, 36 IO22, 37 IO23, 38 GND_4, 39 GND

## ETHERNET_HAT
designator U?
GateName_1: G$1; SymbolName_1: ETHERNET_HAT; LibraryName: 3D_MIG_Controller; DeviceSetName: ETHERNET_HAT; Package: ETHERNET_HAT
footprint ETHERNET_HAT
pins: P1 GND1 (io), P2 GND2 (io), P3 VDD1 (io), P4 VDD (io), P5 GND3 (io), P6 ETH_TXD0 (io), P7 ETH_TXD1 (io), P8 ETH_TXD_EN (io), P9 ETH_RESET (io), P10 ETH_IRQ14 (io), P11 GND4 (io), P12 GND5 (io), P13 GND6 (io), P14 ETH_MDIO (io), P15 ETH_MDC (io), P16 ETH_CRS_DV (io), P17 ETH_RX_ER (io), P18 ETH_RXD1 (io), P19 ETH_RXD0 (io), P20 ETH (io)

## FB_0603_120_OHM0603
designator FB?
PARTNO: BLM18PG121SN1D; GateName_1: G$1; SymbolName_1: FERRITE_BEAD_2_PINS; DeviceName: 0603; DeviceSetName: FB_0603_120_OHM; LibraryName: 3D_MIG_Controller; Package: 0603
footprint 0603
pins: 1 P$1 (io), 2 P$2 (io)

## FB_0805_120_OHM
designator FB?
PARTNO: BLM18PG121SN1D; GateName_1: G$1; SymbolName_1: FERRITE_BEAD_2_PINS; DeviceSetName: FB_0805_120_OHM; LibraryName: 3D_MIG_Controller; Package: 0805
footprint 0805
pins: 1 P$1 (io), 2 P$2 (io)

## FEP30DP-E3/45
designator U?
GateName_1: A; SymbolName_1: DIODE_D2PAK; DeviceSetName: FEP30DP-E3/45; BUILT_BY: EMA_UL_Team; SOURCELIBRARY: Vishay_2020-02-10; VENDOR: Vishay; LibraryName: 3D_MIG_Controller; Package: TO-247AD_VIS; MANUFACTURER_PART_NUMBER: FEP30DP-E3/45
footprint TO-247AD_VIS
pins: 1, 2, 3

## FIDUCIAL
designator FID?
GateName_1: G$1; SymbolName_1: FIDUCIAL; LibraryName: 3D_MIG_Controller; DeviceSetName: FIDUCIAL; Package: FIDUCIAL
footprint FIDUCIAL
pins: P$1 (io)

## FIDUCIAL_1MM
designator ?, comment For use by pick and place machines to calibrate the vision/machine, 1mm    By microbuilder.eu  (value not drawn)
GateName_1: G$1; SymbolName_1: DOT; DeviceSetName: FIDUCIAL_1MM; LibraryName: 3D_MIG_Controller; Package: FIDUCIAL_1MM
footprint FIDUCIAL_1MM

## FT232RLREEL
designator U?
GateName_1: A; SymbolName_1: FT232RLREEL; BUILT_BY: EMA_Cory; SOURCELIBRARY: FTDI_2020-06-08; VENDOR: FTDI; LibraryName: 3D_MIG_Controller; DeviceSetName: FT232RLREEL; Package: SSOP-28_FTD; COPYRIGHT: Copyright (C) 2018 Accelerated Designs. All rights reserved; DATASHEET: https://www.ftdichip.com/Support/Documents/DataSheets/ICs/DS_FT232R.pdf; PARTNO: FT232RLREEL
footprint SSOP-28_FTD
pins: 1 TXD (out), 2 DTR (out), 3 RTS (out), 4 VCCIO (power), 5 RXD (in), 6 RI (in), 7 GND_2, 8 NC_2, 9 DSR (in), 10 DCD (in), 11 CTS (in), 12 CBUS4 (io), 13 CBUS2 (io), 14 CBUS3 (io), 15 USBDP (io), 16 USBDM (io), 17 3V3OUT (out), 18 GND_3, 19 RESET (in), 20 VCC (power), 21 GND, 22 CBUS1 (io), 23 CBUS0 (io), 24 NC, 25 AGND, 26 TEST (in), 27 OSCI (in), 28 OSCO (out)

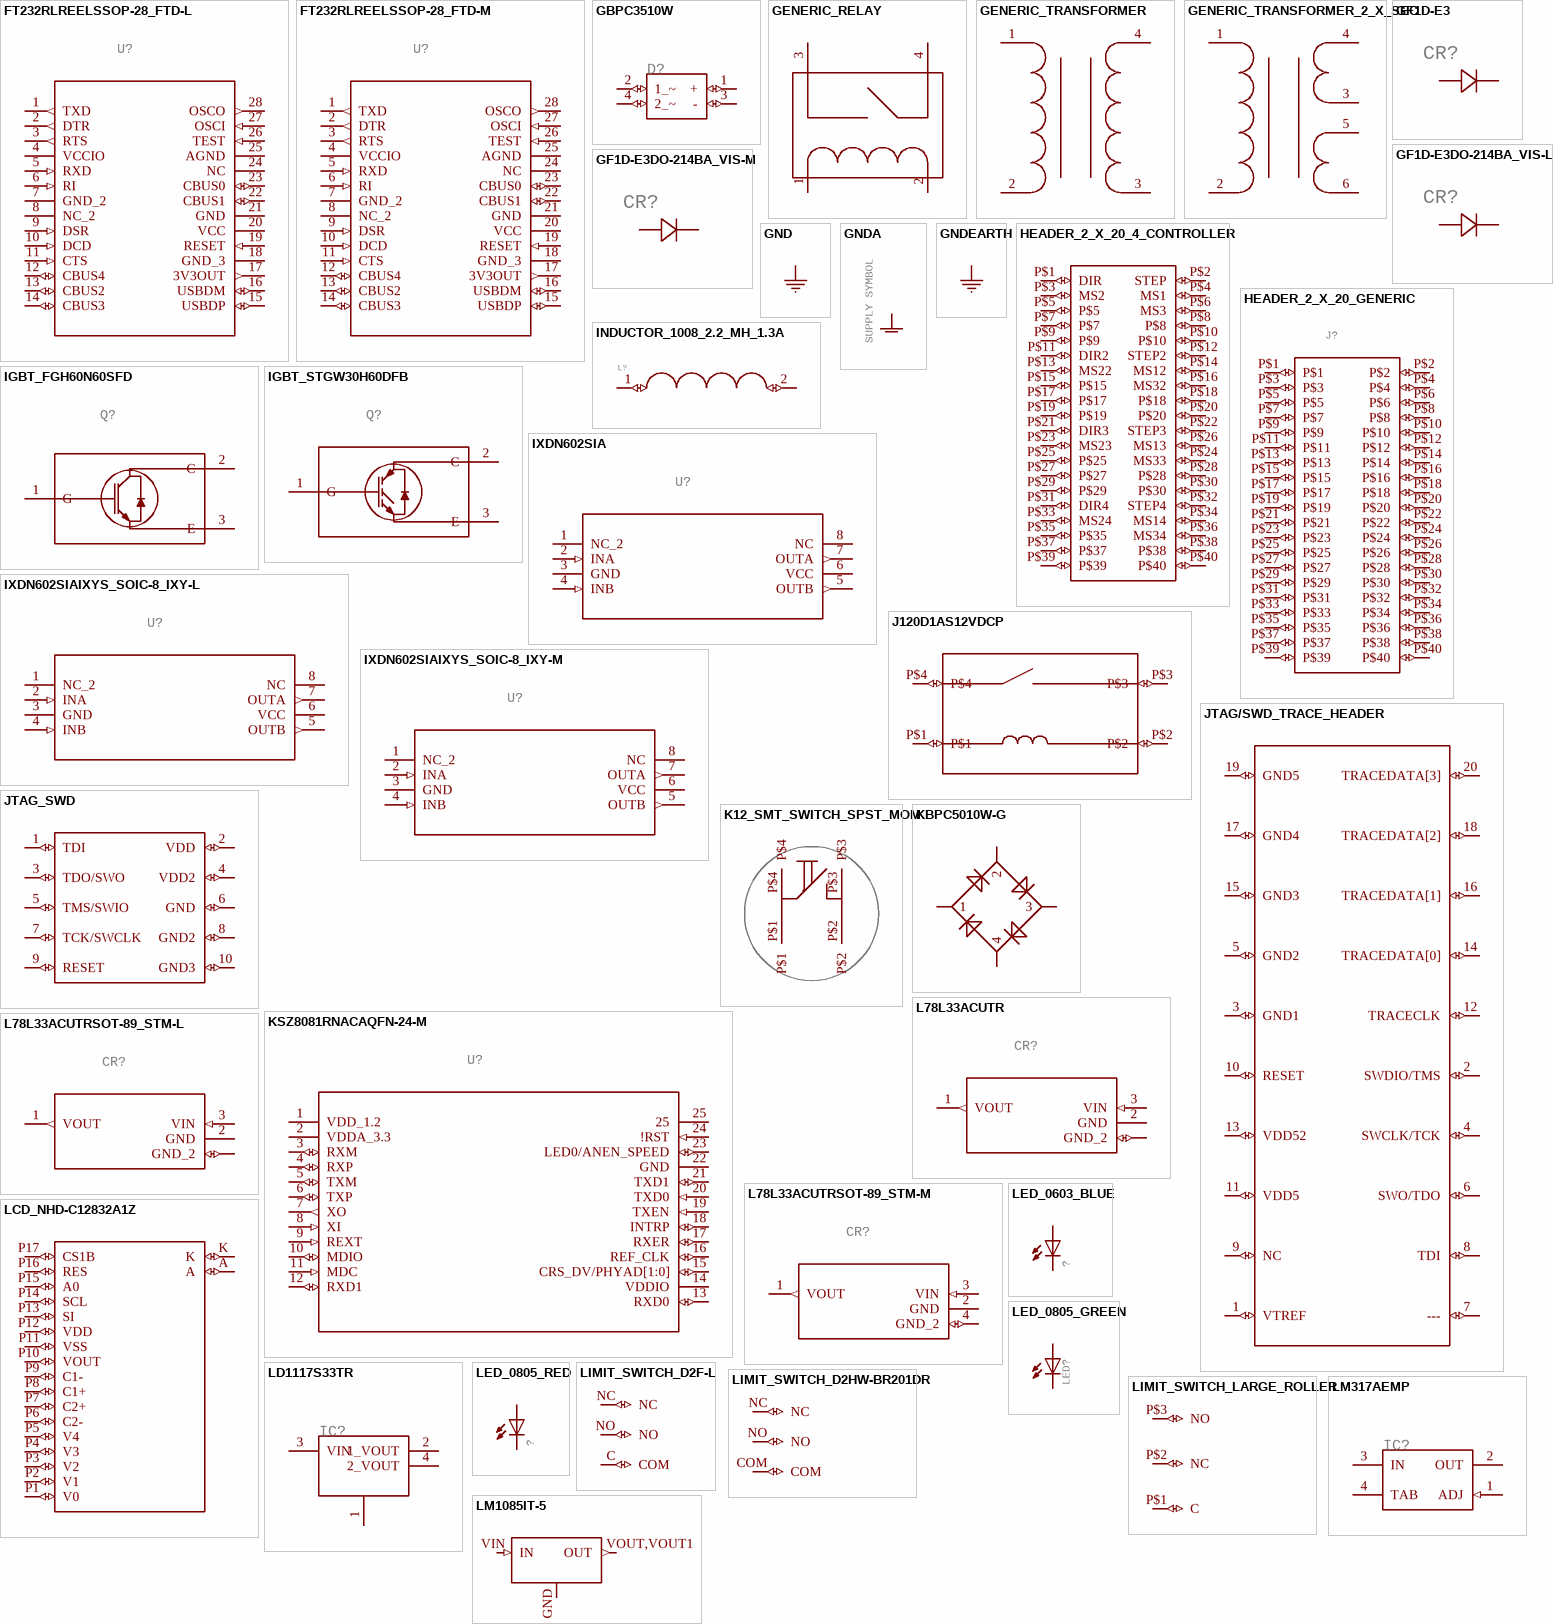
[diagram p13: symbols FT232RLREELSSOP-28_FTD-L to LM1085IT-5]

## FT232RLREELSSOP-28_FTD-L
designator U?
GateName_1: A; SymbolName_1: FT232RLREEL; DeviceName: SSOP-28_FTD-L; BUILT_BY: EMA_Cory; SOURCELIBRARY: FTDI_2020-06-08; VENDOR: FTDI; LibraryName: 3D_MIG_Controller; DeviceSetName: FT232RLREEL; Package: SSOP-28_FTD-L; COPYRIGHT: Copyright (C) 2018 Accelerated Designs. All rights reserved; DATASHEET: https://www.ftdichip.com/Support/Documents/DataSheets/ICs/DS_FT232R.pdf; MANUFACTURER_PART_NUMBER: FT232RLREEL
footprint SSOP-28_FTD-L
pins: 1 TXD (out), 2 DTR (out), 3 RTS (out), 4 VCCIO (power), 5 RXD (in), 6 RI (in), 7 GND_2, 8 NC_2, 9 DSR (in), 10 DCD (in), 11 CTS (in), 12 CBUS4 (io), 13 CBUS2 (io), 14 CBUS3 (io), 15 USBDP (io), 16 USBDM (io), 17 3V3OUT (out), 18 GND_3, 19 RESET (in), 20 VCC (power), 21 GND, 22 CBUS1 (io), 23 CBUS0 (io), 24 NC, 25 AGND, 26 TEST (in), 27 OSCI (in), 28 OSCO (out)

## FT232RLREELSSOP-28_FTD-M
designator U?
GateName_1: A; SymbolName_1: FT232RLREEL; DeviceName: SSOP-28_FTD-M; BUILT_BY: EMA_Cory; SOURCELIBRARY: FTDI_2020-06-08; VENDOR: FTDI; LibraryName: 3D_MIG_Controller; DeviceSetName: FT232RLREEL; Package: SSOP-28_FTD-M; COPYRIGHT: Copyright (C) 2018 Accelerated Designs. All rights reserved; DATASHEET: https://www.ftdichip.com/Support/Documents/DataSheets/ICs/DS_FT232R.pdf; MANUFACTURER_PART_NUMBER: FT232RLREEL
footprint SSOP-28_FTD-M
pins: 1 TXD (out), 2 DTR (out), 3 RTS (out), 4 VCCIO (power), 5 RXD (in), 6 RI (in), 7 GND_2, 8 NC_2, 9 DSR (in), 10 DCD (in), 11 CTS (in), 12 CBUS4 (io), 13 CBUS2 (io), 14 CBUS3 (io), 15 USBDP (io), 16 USBDM (io), 17 3V3OUT (out), 18 GND_3, 19 RESET (in), 20 VCC (power), 21 GND, 22 CBUS1 (io), 23 CBUS0 (io), 24 NC, 25 AGND, 26 TEST (in), 27 OSCI (in), 28 OSCO (out)

## GBPC3510W
designator D?, comment BRIDGE RECT 1xPhase 1KV 35A GBPC-W Package  (value not drawn)
GateName_1: G$1; SymbolName_1: GBPC3510W; LibraryName: 3D_MIG_Controller; DeviceSetName: GBPC3510W; Package: GBPC3510W
footprint GBPC3510W
pins: 1 + (io), 2 1_~ (io), 3 - (io), 4 2_~ (io)

## GENERIC_RELAY
designator ?
GateName_1: A; SymbolName_1: GENERIC_RELAY; LibraryName: 3D_MIG_Controller; DeviceSetName: GENERIC_RELAY; Package: GENERIC_RELAY
footprint GENERIC_RELAY
pins: 1, 2, 3, 4

## GENERIC_TRANSFORMER
designator ?
GateName_1: A; SymbolName_1: GENERIC_TRANSFORMER; LibraryName: 3D_MIG_Controller; DeviceSetName: GENERIC_TRANSFORMER; Package: GENERIC_TRANSFORMER
footprint GENERIC_TRANSFORMER
pins: 1, 2, 3, 4

## GENERIC_TRANSFORMER_2_X_SEC
designator ?
GateName_1: A; SymbolName_1: GENERIC_TRANSFORMER_2_X_SEC; LibraryName: 3D_MIG_Controller; DeviceSetName: GENERIC_TRANSFORMER_2_X_SEC; Package: GENERIC_TRANSFORMER_2_X_SEC
footprint GENERIC_TRANSFORMER_2_X_SEC
pins: 1, 2, 3, 4, 5, 6

## GF1D-E3
designator CR?
GateName_1: A; SymbolName_1: DIODE; DeviceSetName: GF1D-E3; BUILT_BY: EMA_UL_Team; SOURCELIBRARY: Vishay_2020-02-10; VENDOR: Vishay; LibraryName: 3D_MIG_Controller; Package: DO-214BA_VIS; MANUFACTURER_PART_NUMBER: GF1D-E3
footprint DO-214BA_VIS
pins: 1, 2

## GF1D-E3DO-214BA_VIS-L
designator CR?
GateName_1: A; SymbolName_1: DIODE; DeviceName: DO-214BA_VIS-L; DeviceSetName: GF1D-E3; BUILT_BY: EMA_UL_Team; SOURCELIBRARY: Vishay_2020-02-10; VENDOR: Vishay; LibraryName: 3D_MIG_Controller; Package: DO-214BA_VIS-L; MANUFACTURER_PART_NUMBER: GF1D-E3
footprint DO-214BA_VIS-L
pins: 1, 2

## GF1D-E3DO-214BA_VIS-M
designator CR?
GateName_1: A; SymbolName_1: DIODE; DeviceName: DO-214BA_VIS-M; DeviceSetName: GF1D-E3; BUILT_BY: EMA_UL_Team; SOURCELIBRARY: Vishay_2020-02-10; VENDOR: Vishay; LibraryName: 3D_MIG_Controller; Package: DO-214BA_VIS-M; MANUFACTURER_PART_NUMBER: GF1D-E3
footprint DO-214BA_VIS-M
pins: 1, 2

## GND
designator GND?, comment SUPPLY SYMBOL  (value not drawn)
GateName_1: 1; SymbolName_1: GND-1; DeviceSetName: GND; LibraryName: 3D_MIG_Controller
pins: ?1 GND (power)

## GNDA
designator GND?, comment SUPPLY SYMBOL
GateName_1: 1; SymbolName_1: GNDA; LibraryName: 3D_MIG_Controller; DeviceSetName: GNDA
pins: ?1 GNDA (power)

## GNDEARTH
designator GNDE?, comment SUPPLY SYMBOL  (value not drawn)
GateName_1: G$1; SymbolName_1: GND-E; DeviceSetName: GNDEARTH; LibraryName: 3D_MIG_Controller
pins: ?1 GNDE (power)

## HEADER_2_X_20_4_CONTROLLER
designator J?
GateName_1: G$1; SymbolName_1: 2_X_20_HEADER_4_CONTROLLER; DeviceSetName: HEADER_2_X_20_4_CONTROLLER; LibraryName: 3D_MIG_Controller; Package: HEADER_2_X_20_.1_INCH
footprint HEADER_2_X_20_.1_INCH
pins: P$1 DIR (io), P$2 STEP (io), P$3 MS2 (io), P$4 MS1 (io), P$5 (io), P$6 MS3 (io), P$7 (io), P$8 (io), P$9 (io), P$10 (io), P$11 DIR2 (io), P$12 STEP2 (io), P$13 MS22 (io), P$14 MS12 (io), P$15 (io), P$16 MS32 (io), P$17 (io), P$18 (io), P$19 (io), P$20 (io), P$21 DIR3 (io), P$22 STEP3 (io), P$23 MS23 (io), P$24 MS33 (io), P$25 (io), P$26 MS13 (io), P$27 (io), P$28 (io), P$29 (io), P$30 (io), P$31 DIR4 (io), P$32 STEP4 (io), P$33 MS24 (io), P$34 MS14 (io), P$35 (io), P$36 MS34 (io), P$37 (io), P$38 (io), P$39 (io), P$40 (io)

## HEADER_2_X_20_GENERIC
designator J?, comment CONN HEADER R/A 40POS 2.54MM  (value not drawn)
PARTNO: 61304021021; GateName_1: G$1; SymbolName_1: 2_X_20_HEADER_GENERIC; DeviceSetName: HEADER_2_X_20_GENERIC; LibraryName: 3D_MIG_Controller; Package: HEADER_2_X_20_.1_INCH
footprint HEADER_2_X_20_.1_INCH
pins: P$1 (io), P$2 (io), P$3 (io), P$4 (io), P$5 (io), P$6 (io), P$7 (io), P$8 (io), P$9 (io), P$10 (io), P$11 (io), P$12 (io), P$13 (io), P$14 (io), P$15 (io), P$16 (io), P$17 (io), P$18 (io), P$19 (io), P$20 (io), P$21 (io), P$22 (io), P$23 (io), P$24 (io), P$25 (io), P$26 (io), P$27 (io), P$28 (io), P$29 (io), P$30 (io), P$31 (io), P$32 (io), P$33 (io), P$34 (io), P$35 (io), P$36 (io), P$37 (io), P$38 (io), P$39 (io), P$40 (io)

## IGBT_FGH60N60SFD
designator Q?
GateName_1: G$1; SymbolName_1: IGBT_STANDARD; DeviceSetName: IGBT_FGH60N60SFD; LibraryName: 3D_MIG_Controller; Package: TO-247_STM
footprint TO-247_STM
pins: 1 G, 2 C, 3 E

## IGBT_STGW30H60DFB
designator Q?
MANUFACTURER_PART_NUMBER: STGW30H60DFB; GateName_1: A; SymbolName_1: STGB10NC60KD; DeviceSetName: IGBT_STGW30H60DFB; BUILT_BY: EMA_Cory; SOURCELIBRARY: Update_to_database_2020-11-23; VENDOR: STMicroelectronics; LibraryName: 3D_MIG_Controller; Package: TO-247_STM; COPYRIGHT: Copyright (C) 2018 Accelerated Designs. All rights reserved; DATASHEET: https://www.st.com/resource/en/datasheet/stgw30h60dfb.pdf
footprint TO-247_STM
pins: 1 G, 2 C, 3 E

## INDUCTOR_1008_2.2_MH_1.3A
designator L?
PARTNO: LQM2HPN2R2MG0L; GateName_1: G$1; SymbolName_1: INDUCTOR_2_PINS; DeviceSetName: INDUCTOR_1008_2.2_MH_1.3A; LibraryName: 3D_MIG_Controller; Package: 1008
footprint 1008
pins: 1 P$1 (io), 2 P$2 (io)

## IXDN602SIA
designator U?
GateName_1: A; SymbolName_1: IXDN602SIA; BUILT_BY: EMA_UL_Team; SOURCELIBRARY: IXYS_2014-15-09; VENDOR: IXYS; LibraryName: 3D_MIG_Controller; DeviceSetName: IXDN602SIA; Package: IXYS_SOIC-8_IXY; MANUFACTURER_PART_NUMBER: IXDN602SIA
footprint IXYS_SOIC-8_IXY
pins: 1 NC_2, 2 INA (in), 3 GND (power), 4 INB (in), 5 OUTB (out), 6 VCC (power), 7 OUTA (out), 8 NC

## IXDN602SIAIXYS_SOIC-8_IXY-L
designator U?
GateName_1: A; SymbolName_1: IXDN602SIA; DeviceName: IXYS_SOIC-8_IXY-L; BUILT_BY: EMA_UL_Team; SOURCELIBRARY: IXYS_2014-15-09; VENDOR: IXYS; LibraryName: 3D_MIG_Controller; DeviceSetName: IXDN602SIA; Package: IXYS_SOIC-8_IXY-L; MANUFACTURER_PART_NUMBER: IXDN602SIA
footprint IXYS_SOIC-8_IXY-L
pins: 1 NC_2, 2 INA (in), 3 GND (power), 4 INB (in), 5 OUTB (out), 6 VCC (power), 7 OUTA (out), 8 NC

## IXDN602SIAIXYS_SOIC-8_IXY-M
designator U?
GateName_1: A; SymbolName_1: IXDN602SIA; DeviceName: IXYS_SOIC-8_IXY-M; BUILT_BY: EMA_UL_Team; SOURCELIBRARY: IXYS_2014-15-09; VENDOR: IXYS; LibraryName: 3D_MIG_Controller; DeviceSetName: IXDN602SIA; Package: IXYS_SOIC-8_IXY-M; MANUFACTURER_PART_NUMBER: IXDN602SIA
footprint IXYS_SOIC-8_IXY-M
pins: 1 NC_2, 2 INA (in), 3 GND (power), 4 INB (in), 5 OUTB (out), 6 VCC (power), 7 OUTA (out), 8 NC

## J120D1AS12VDCP
designator RL?
GateName_1: G$1; SymbolName_1: RELAY_SOLENOID; DeviceSetName: J120D1AS12VDCP; LibraryName: 3D_MIG_Controller; Package: J120D
footprint J120D
pins: P$1 (io), P$2 (io), P$3 (io), P$4 (io)

## JTAG/SWD_TRACE_HEADER
designator J?
GateName_1: G$1; SymbolName_1: JTAG/SWD_CONNECTOR; DeviceSetName: JTAG/SWD_TRACE_HEADER; LibraryName: 3D_MIG_Controller; Package: HEADER_2_X_10_.05_INCH
footprint HEADER_2_X_10_.05_INCH
pins: 1 VTREF (io), 2 SWDIO/TMS (io), 3 GND1 (io), 4 SWCLK/TCK (io), 5 GND2 (io), 6 SWO/TDO (io), 7 --- (io), 8 TDI (io), 9 NC (io), 10 RESET (io), 11 VDD5 (io), 12 TRACECLK (io), 13 VDD52 (io), 14 TRACEDATA[0] (io), 15 GND3 (io), 16 TRACEDATA[1] (io), 17 GND4 (io), 18 TRACEDATA[2] (io), 19 GND5 (io), 20 TRACEDATA[3] (io)

## JTAG_SWD
designator J?
GateName_1: G$1; SymbolName_1: JTAG_SWD; LibraryName: 3D_MIG_Controller; DeviceSetName: JTAG_SWD; Package: 2X5
footprint 2X5
pins: 1 TDI (io), 2 VDD (io), 3 TDO/SWO (io), 4 VDD2 (io), 5 TMS/SWIO (io), 6 GND (io), 7 TCK/SWCLK (io), 8 GND2 (io), 9 RESET (io), 10 GND3 (io)

## K12_SMT_SWITCH_SPST_MOM
designator S?
GateName_1: G$1; SymbolName_1: K12_SMT_SWITCH_SPST_MOM; LibraryName: 3D_MIG_Controller; DeviceSetName: K12_SMT_SWITCH_SPST_MOM; Package: K12_SMT_SWITCH_SPST_MOM
footprint K12_SMT_SWITCH_SPST_MOM
pins: P$1 (io), P$2 (io), P$3 (io), P$4 (io)

## KBPC5010W-G
designator ?
GateName_1: A; SymbolName_1: DIODE-RECTIFIER; DeviceSetName: KBPC5010W-G; LibraryName: 3D_MIG_Controller; Package: KBPC-W_THRU
footprint KBPC-W_THRU
pins: 1, 2, 3, 4

## KSZ8081RNACAQFN-24-M
designator U?
GateName_1: A; SymbolName_1: KSZ8081RNACA; DeviceName: QFN-24-M; VENDOR: Micrel; LibraryName: 3D_MIG_Controller; DeviceSetName: KSZ8081RNACA; Package: QFN-24-M; PARTNO: KSZ8081RNACA
footprint QFN-24-M
pins: 1 VDD_1.2 (power), 2 VDDA_3.3 (power), 3 RXM (io), 4 RXP (io), 5 TXM (io), 6 TXP (io), 7 XO (out), 8 XI (in), 9 REXT (in), 10 MDIO (io), 11 MDC (in), 12 RXD1 (io), 13 RXD0 (io), 14 VDDIO (power), 15 CRS_DV/PHYAD[1:0] (io), 16 REF_CLK (io), 17 RXER (io), 18 INTRP (io), 19 TXEN (in), 20 TXD0 (in), 21 TXD1 (io), 22 GND (power), 23 LED0/ANEN_SPEED (io), 24 !RST (in), 25

## L78L33ACUTR
designator CR?
GateName_1: A; SymbolName_1: L78L33ACUTR; BUILT_BY: EMA_UL_Team; SOURCELIBRARY: StMicro_2011-06-07; VENDOR: STMicroelectronics; LibraryName: 3D_MIG_Controller; DeviceSetName: L78L33ACUTR; Package: SOT-89_STM; MANUFACTURER_PART_NUMBER: L78L33ACUTR
footprint SOT-89_STM
pins: 1 VOUT (out), 2 GND, 3 VIN (in), ?1 GND_2 (io)

## L78L33ACUTRSOT-89_STM-L
designator CR?
GateName_1: A; SymbolName_1: L78L33ACUTR; DeviceName: SOT-89_STM-L; BUILT_BY: EMA_UL_Team; SOURCELIBRARY: StMicro_2011-06-07; VENDOR: STMicroelectronics; LibraryName: 3D_MIG_Controller; DeviceSetName: L78L33ACUTR; Package: SOT-89_STM-L; MANUFACTURER_PART_NUMBER: L78L33ACUTR
footprint SOT-89_STM-L
pins: 1 VOUT (out), 2 GND, 3 VIN (in), ?1 GND_2 (io)

## L78L33ACUTRSOT-89_STM-M
designator CR?
GateName_1: A; SymbolName_1: L78L33ACUTR; DeviceName: SOT-89_STM-M; BUILT_BY: EMA_UL_Team; SOURCELIBRARY: StMicro_2011-06-07; VENDOR: STMicroelectronics; LibraryName: 3D_MIG_Controller; DeviceSetName: L78L33ACUTR; Package: SOT-89_STM-M; MANUFACTURER_PART_NUMBER: L78L33ACUTR
footprint SOT-89_STM-M
pins: 1 VOUT (out), 2 GND, 3 VIN (in), 4 GND_2 (io)

## LCD_NHD-C12832A1Z
designator LCD?
GateName_1: G$1; SymbolName_1: LCD_NHD_C12832; DeviceSetName: LCD_NHD-C12832A1Z; LibraryName: 3D_MIG_Controller; Package: LCD_NHD-C12832A1Z
footprint LCD_NHD-C12832A1Z
pins: A (io), K (io), P1 V0 (io), P2 V1 (io), P3 V2 (io), P4 V3 (io), P5 V4 (io), P6 C2- (io), P7 C2+ (io), P8 C1+ (io), P9 C1- (io), P10 VOUT (io), P11 VSS (io), P12 VDD (io), P13 SI (io), P14 SCL (io), P15 A0 (io), P16 RES (io), P17 CS1B (io)

## LD1117S33TR
designator IC?, comment IC REG LINEAR 3.3V 800mA SOT223  (value not drawn)
GateName_1: G$1; SymbolName_1: LD1117S33TR; LibraryName: 3D_MIG_Controller; DeviceSetName: LD1117S33TR; Package: SOT223_LD1117S33TR
footprint SOT223_LD1117S33TR
pins: 1 GND (power), 2 1_VOUT (power), 3 VIN (power), 4 2_VOUT (power)

## LED_0603_BLUE
designator ?
GateName_1: G$1; SymbolName_1: LED_0603_BLUE; LibraryName: 3D_MIG_Controller; DeviceSetName: LED_0603_BLUE; Package: LED_0603_BLUE
footprint LED_0603_BLUE
pins: A, C

## LED_0805_GREEN
designator LED?, comment Green 570nm LED Indication - Discrete 2.2V 0805 (2012 Metric)  (value not drawn)
PARTNO: LG R971-KN-1; GateName_1: G$1; SymbolName_1: LED_0805_GREEN; LibraryName: 3D_MIG_Controller; DeviceSetName: LED_0805_GREEN; Package: 0805
footprint 0805
pins: 1 A, 2 C

## LED_0805_RED
designator ?
GateName_1: G$1; SymbolName_1: LED_0805_RED; LibraryName: 3D_MIG_Controller; DeviceSetName: LED_0805_RED; Package: LED_0805_RED
footprint LED_0805_RED
pins: A, C

## LIMIT_SWITCH_D2F-L
designator ?
GateName_1: G$1; SymbolName_1: LIMIT_SWITCH_D2F-L; LibraryName: 3D_MIG_Controller; DeviceSetName: LIMIT_SWITCH_D2F-L; Package: LIMIT_SWITCH_D2F-L
footprint LIMIT_SWITCH_D2F-L
pins: C COM (io), NC (io), NO (io)

## LIMIT_SWITCH_D2HW-BR201DR
designator ?
GateName_1: G$1; SymbolName_1: LIMIT_SWITCH_D2HW-BR201DR; LibraryName: 3D_MIG_Controller; DeviceSetName: LIMIT_SWITCH_D2HW-BR201DR; Package: LIMIT_SWITCH_D2HW-BR201DR
footprint LIMIT_SWITCH_D2HW-BR201DR
pins: COM (io), NC (io), NO (io)

## LIMIT_SWITCH_LARGE_ROLLER
designator ?
GateName_1: G$1; SymbolName_1: LIMIT-SWITCH_LARGE_ROLLER; DeviceSetName: LIMIT_SWITCH_LARGE_ROLLER; LibraryName: 3D_MIG_Controller; Package: LIMIT_SWITCH_LARGE_ROLLER
footprint LIMIT_SWITCH_LARGE_ROLLER
pins: P$1 C (io), P$2 NC (io), P$3 NO (io)

## LM317AEMP
designator IC?, comment Linear Voltage Regulator IC Positive Adjustable Output 1.5A SOT-223-4  (value not drawn)
GateName_1: G$1; SymbolName_1: LM317AEMP; LibraryName: 3D_MIG_Controller; DeviceSetName: LM317AEMP; Package: SOT223_LM317AEMP
footprint SOT223_LM317AEMP
pins: 1 ADJ (in), 2 OUT (power), 3 IN (power), 4 TAB (power)

## LM1085IT-5
designator ?
GateName_1: G$1; SymbolName_1: LM1085IT-5; LibraryName: 3D_MIG_Controller; DeviceSetName: LM1085IT-5; Package: TO263-3
footprint TO263-3
pins: GND (power), VIN IN (in), VOUT,VOUT1 OUT (out)

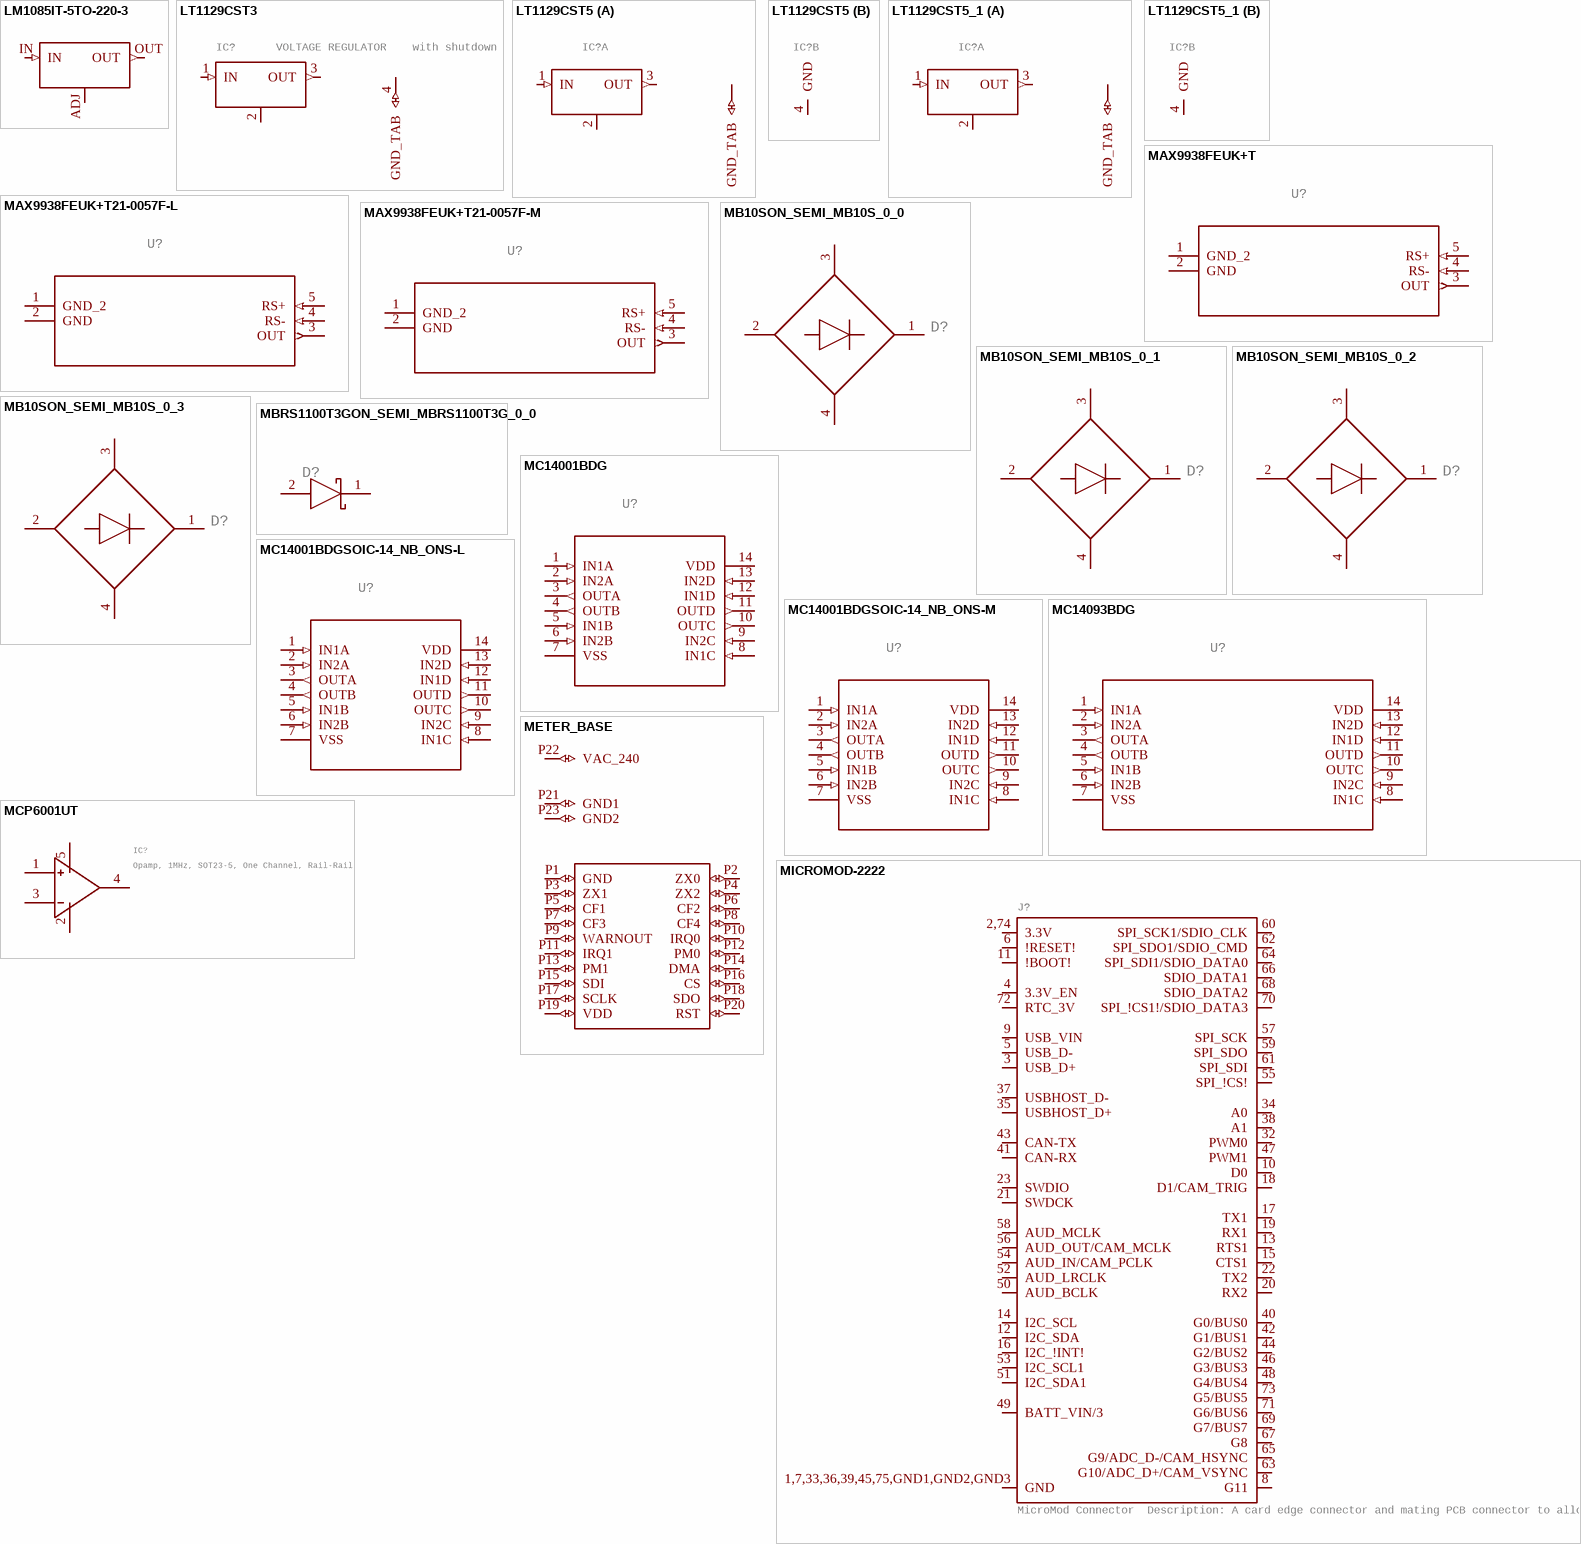
[diagram p14: symbols LM1085IT-5TO-220-3 to MICROMOD-2222]

## LM1085IT-5TO-220-3
designator ?
GateName_1: G$1; SymbolName_1: LM1085IT-5; DeviceName: TO-220-3; LibraryName: 3D_MIG_Controller; DeviceSetName: LM1085IT-5; Package: TO220-ADJ
footprint TO220-ADJ
pins: ADJ GND (power), IN (in), OUT (out)

## LT1129CST3
designator IC?, comment VOLTAGE REGULATOR    with shutdown
GateName_1: G$1; SymbolName_1: LT1129-3; DeviceSetName: LT1129CST3; LibraryName: 3D_MIG_Controller; Package: SOT223
footprint SOT223
pins: 1 IN (in), 2 GND (power), 3 OUT (out), 4 GND_TAB (io)

## LT1129CST5
designator IC?, comment VOLTAGE REGULATOR    with shutdown  (value not drawn)
MPN: LT1129CST-5#PBF; GateName_1: G$1; SymbolName_1: LT1129-3; GateName_2: GND; DeviceSetName: LT1129CST5; SymbolName_2: GND; LibraryName: 3D_MIG_Controller; Package: SOT223; OC_FARNELL: 1663375; OC_NEWARK: 57M2069
footprint SOT223
part A pins: 1 IN (in), 2 GND (power), 3 OUT (out), ?1 GND_TAB (io)
part B pins: 4 GND (power)

## LT1129CST5_1
designator IC?, comment VOLTAGE REGULATOR    with shutdown  (value not drawn)
MPN: LT1129CST-5#PBF; GateName_1: G$1; SymbolName_1: LT1129-3; GateName_2: GND; DeviceSetName: LT1129CST5; SymbolName_2: GND; LibraryName: 3D_MIG_Controller; Package: SOT223; OC_FARNELL: 1663375; OC_NEWARK: 57M2069
footprint SOT223
part A pins: 1 IN (in), 2 GND (power), 3 OUT (out), ?1 GND_TAB (io)
part B pins: 4 GND (power)

## MAX9938FEUK+T
designator U?
GateName_1: A; SymbolName_1: MAX9938FEUK+; DeviceSetName: MAX9938FEUK+T; VENDOR: Maxim Integrated Products; LibraryName: 3D_MIG_Controller; Package: 21-0057F; MANUFACTURER_PART_NUMBER: MAX9938FEUK+T
footprint 21-0057F
pins: 1 GND_2 (power), 2 GND (power), 3 OUT (out), 4 RS- (in), 5 RS+ (in)

## MAX9938FEUK+T21-0057F-L
designator U?
GateName_1: A; SymbolName_1: MAX9938FEUK+; DeviceName: 21-0057F-L; DeviceSetName: MAX9938FEUK+T; VENDOR: Maxim Integrated Products; LibraryName: 3D_MIG_Controller; Package: 21-0057F-L; MANUFACTURER_PART_NUMBER: MAX9938FEUK+T
footprint 21-0057F-L
pins: 1 GND_2 (power), 2 GND (power), 3 OUT (out), 4 RS- (in), 5 RS+ (in)

## MAX9938FEUK+T21-0057F-M
designator U?
GateName_1: A; SymbolName_1: MAX9938FEUK+; DeviceName: 21-0057F-M; DeviceSetName: MAX9938FEUK+T; VENDOR: Maxim Integrated Products; LibraryName: 3D_MIG_Controller; Package: 21-0057F-M; MANUFACTURER_PART_NUMBER: MAX9938FEUK+T
footprint 21-0057F-M
pins: 1 GND_2 (power), 2 GND (power), 3 OUT (out), 4 RS- (in), 5 RS+ (in)